# EAGLE library part TL3472CD_TL3472CD (library bat-board rev 2.0)
HIGH-SLEW-RATE, SINGLE-SUPPLY OPERATIONAL AMPLIFIER
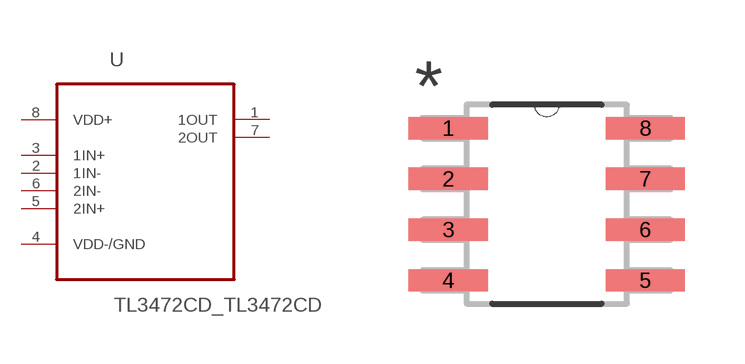
[diagram p1: symbol with the pads of TL3472CD_SOIC127P600X175-8N; footprint TL3472CD_SOIC127P600X175-8N]

Designator prefix U

## TL3472CD_TL3472CD (AVAILABILITY: Good; DESCRIPTION: High-Slew- ate, Single-Supply Operational Amplifier 8-SOIC 0 to 70; MF: Texas Instruments; MP: TL3472CD; PACKAGE: SOIC-8 Texas Instruments; PRICE: 0.47 USD)  [TL3472CD_SOIC127P600X175-8N]
1  1OUT  out
2  1IN-  in
3  1IN+  in
4  VDD-/GND  pwr
5  2IN+  in
6  2IN-  in
7  2OUT  out
8  VDD+  pwr

## Footprint TL3472CD_SOIC127P600X175-8N (pad centres in mm)
smd 1.981 x 0.559: 1 -2.464,1.905; 2 -2.464,0.635; 3 -2.464,-0.635; 4 -2.464,-1.905; 5 2.464,-1.905; 6 2.464,-0.635; 7 2.464,0.635; 8 2.464,1.905